# Altium footprint library PcbLib1.PcbLib: 19 footprints (part 2 of 2)
Each footprint in its own frame and in the unit in brackets; x right, y up, seen from the top. Pads: shape width x height; smd on the part's side, far side on the other; paste and mask are expansions set on the pad; w line width, h text height; cw(c..) or ccw(c..) is an arc to the next point about the centre after c.
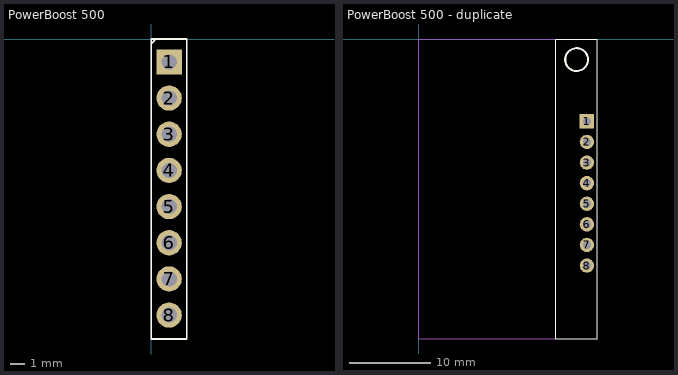
[diagram p1: the footprints below, top view; thin cyan lines are the x and y axes]

## PCBComponent_1 [mil]

## PowerBoost 500 [mm] "Adafruit PowerBoost 500 + Charger"
pads (8):
  rect 1.778x1.778 hole 1.07: 1(1.26,-1.61)
  round 1.778 hole 1.07: 2(1.26,-4.15) 3(1.26,-6.69) 4(1.26,-9.23) 5(1.26,-11.77) 6(1.26,-14.31) 7(1.26,-16.85) 8(1.26,-19.39)
Top Overlay:
  lines w0.127: 0.01,-0.32 0.25,-0.08 0.25,-0.05 ; 0,-21.07 2.5,-21.07 2.5,0 0,0 0,-21.07

## PowerBoost 500 - duplicate [mil] "Adafruit PowerBoost 500 + Charger"
pads (8):
  rect 70x70 hole 39.37: 1(816.14,-400)
  round 70 hole 39.37: 2(816.14,-500) 3(816.14,-600) 4(816.14,-700) 5(816.14,-800) 6(816.14,-900) 7(816.14,-1000) 8(816.14,-1100)
Top Overlay:
  circle w10: c766.14,-100 r55.43
  lines w5: 664.57,-1455.51 664.57,-2.76 667.32,0 866.14,0 866.14,-1456.69 665.75,-1456.69
Mechanical 1:
  lines w5: 0,-1456.69 0,0
Mechanical 13:
  lines w5: -0.39,-1456.69 664.57,-1456.69 ; 0.39,-0.39 665.75,-0.39